# Altium schematic symbol library BWRC.SchLib: 49 symbols
Pins are listed as number, name and electrical type; pins without a type are passive.

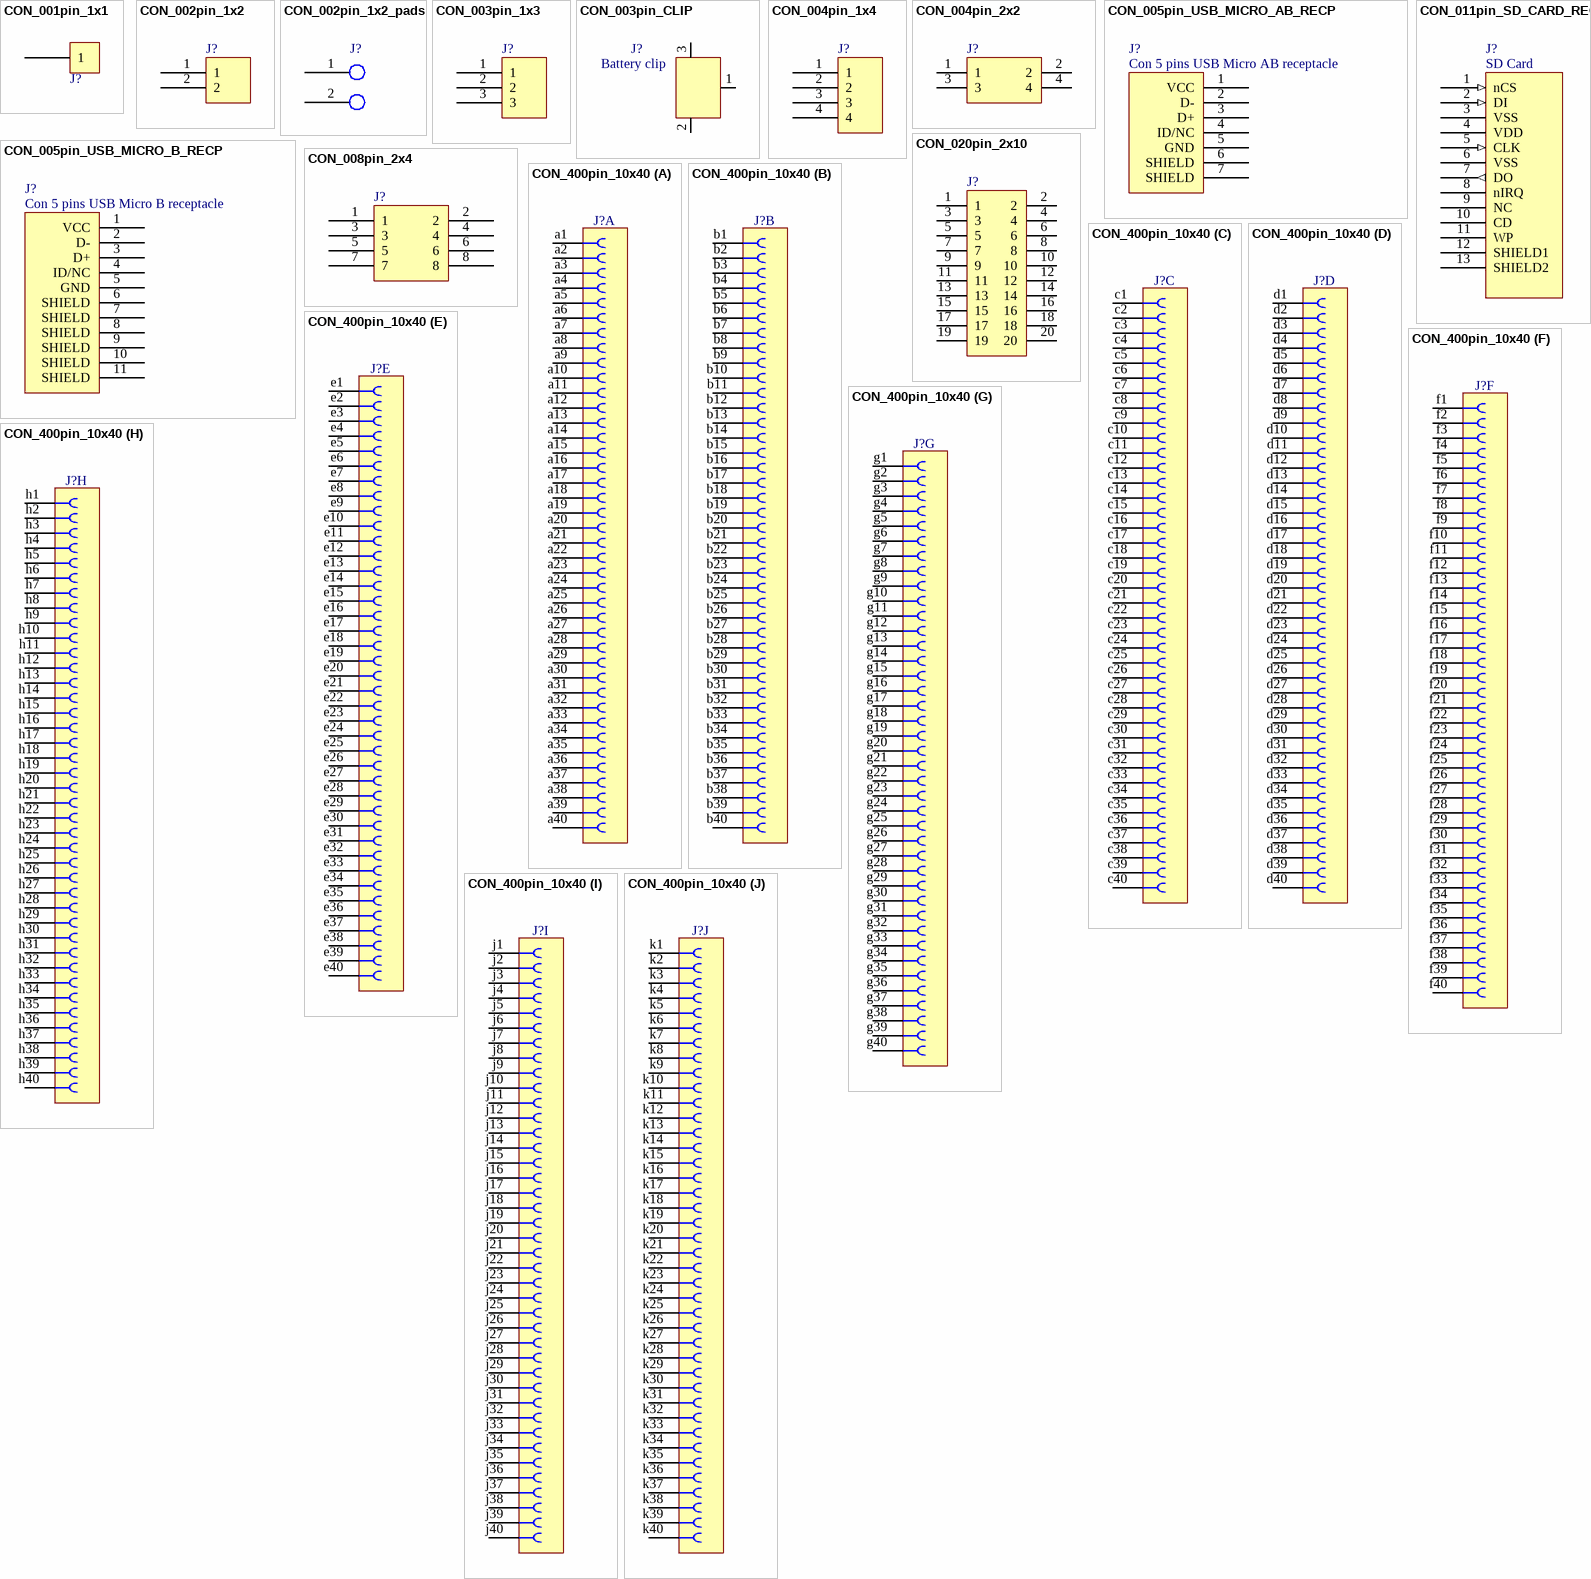
[diagram p0: symbols CON_001pin_1x1 to CON_400pin_10x40]

## CON_001pin_1x1
designator J?, comment Con 1 pin  (value not drawn)
pins: 1

## CON_002pin_1x2
designator J?, comment Con 2 pins  (value not drawn)
pins: 1, 2

## CON_002pin_1x2_pads
designator J?, comment Con 2 pads  (value not drawn)  (no BOM)
pins: 1, 2

## CON_003pin_1x3
designator J?, comment Con 3 pins  (value not drawn)
pins: 1, 2, 3

## CON_003pin_CLIP
designator J?, comment Battery clip
Con 3 pins battery clip
pins: 1, 2, 3

## CON_004pin_1x4
designator J?, comment Con 4 pins 1x4  (value not drawn)
pins: 1, 2, 3, 4

## CON_004pin_2x2
designator J?, comment Con 4 pins 2x2  (value not drawn)
pins: 1, 2, 3, 4

## CON_005pin_USB_MICRO_AB_RECP
designator J?, comment Con 5 pins USB Micro AB receptacle
Con 5 pins USB MicroAB receptacle
pins: 1 VCC, 2 D-, 3 D+, 4 ID/NC, 5 GND, 6 SHIELD, 7 SHIELD

## CON_005pin_USB_MICRO_B_RECP
designator J?, comment Con 5 pins USB Micro B receptacle
pins: 1 VCC, 2 D-, 3 D+, 4 ID/NC, 5 GND, 6 SHIELD, 7 SHIELD, 8 SHIELD, 9 SHIELD, 10 SHIELD, 11 SHIELD

## CON_008pin_2x4
designator J?, comment Con 8 pins 2x4  (value not drawn)
pins: 1, 2, 3, 4, 5, 6, 7, 8

## CON_011pin_SD_CARD_RECP
designator J?, comment SD Card
Con 11 pins secure digital card slot (normal size)
pins: 1 nCS (in), 2 DI (in), 3 VSS (power), 4 VDD (power), 5 CLK (in), 6 VSS (power), 7 DO (out), 8 nIRQ (oc), 9 NC (hiz), 10 CD, 11 WP, 12 SHIELD1, 13 SHIELD2

## CON_020pin_2x10
designator J?, comment Con 20 pins 2x10  (value not drawn)
pins: 1, 2, 3, 4, 5, 6, 7, 8, 9, 10, 11, 12, 13, 14, 15, 16, 17, 18, 19, 20

## CON_400pin_10x40
designator J?, comment Con 400 pins in 10 parts: abcdefghjk  (value not drawn)
part A pins: a1, a2, a3, a4, a5, a6, a7, a8, a9, a10, a11, a12, a13, a14, a15, a16, a17, a18, a19, a20, a21, a22, a23, a24, a25, a26, a27, a28, a29, a30, a31, a32, a33, a34, a35, a36, a37, a38, a39, a40
part B pins: b1, b2, b3, b4, b5, b6, b7, b8, b9, b10, b11, b12, b13, b14, b15, b16, b17, b18, b19, b20, b21, b22, b23, b24, b25, b26, b27, b28, b29, b30, b31, b32, b33, b34, b35, b36, b37, b38, b39, b40
part C pins: c1, c2, c3, c4, c5, c6, c7, c8, c9, c10, c11, c12, c13, c14, c15, c16, c17, c18, c19, c20, c21, c22, c23, c24, c25, c26, c27, c28, c29, c30, c31, c32, c33, c34, c35, c36, c37, c38, c39, c40
part D pins: d1, d2, d3, d4, d5, d6, d7, d8, d9, d10, d11, d12, d13, d14, d15, d16, d17, d18, d19, d20, d21, d22, d23, d24, d25, d26, d27, d28, d29, d30, d31, d32, d33, d34, d35, d36, d37, d38, d39, d40
part E pins: e1, e2, e3, e4, e5, e6, e7, e8, e9, e10, e11, e12, e13, e14, e15, e16, e17, e18, e19, e20, e21, e22, e23, e24, e25, e26, e27, e28, e29, e30, e31, e32, e33, e34, e35, e36, e37, e38, e39, e40
part F pins: f1, f2, f3, f4, f5, f6, f7, f8, f9, f10, f11, f12, f13, f14, f15, f16, f17, f18, f19, f20, f21, f22, f23, f24, f25, f26, f27, f28, f29, f30, f31, f32, f33, f34, f35, f36, f37, f38, f39, f40
part G pins: g1, g2, g3, g4, g5, g6, g7, g8, g9, g10, g11, g12, g13, g14, g15, g16, g17, g18, g19, g20, g21, g22, g23, g24, g25, g26, g27, g28, g29, g30, g31, g32, g33, g34, g35, g36, g37, g38, g39, g40
part H pins: h1, h2, h3, h4, h5, h6, h7, h8, h9, h10, h11, h12, h13, h14, h15, h16, h17, h18, h19, h20, h21, h22, h23, h24, h25, h26, h27, h28, h29, h30, h31, h32, h33, h34, h35, h36, h37, h38, h39, h40
part I pins: j1, j2, j3, j4, j5, j6, j7, j8, j9, j10, j11, j12, j13, j14, j15, j16, j17, j18, j19, j20, j21, j22, j23, j24, j25, j26, j27, j28, j29, j30, j31, j32, j33, j34, j35, j36, j37, j38, j39, j40
part J pins: k1, k2, k3, k4, k5, k6, k7, k8, k9, k10, k11, k12, k13, k14, k15, k16, k17, k18, k19, k20, k21, k22, k23, k24, k25, k26, k27, k28, k29, k30, k31, k32, k33, k34, k35, k36, k37, k38, k39, k40

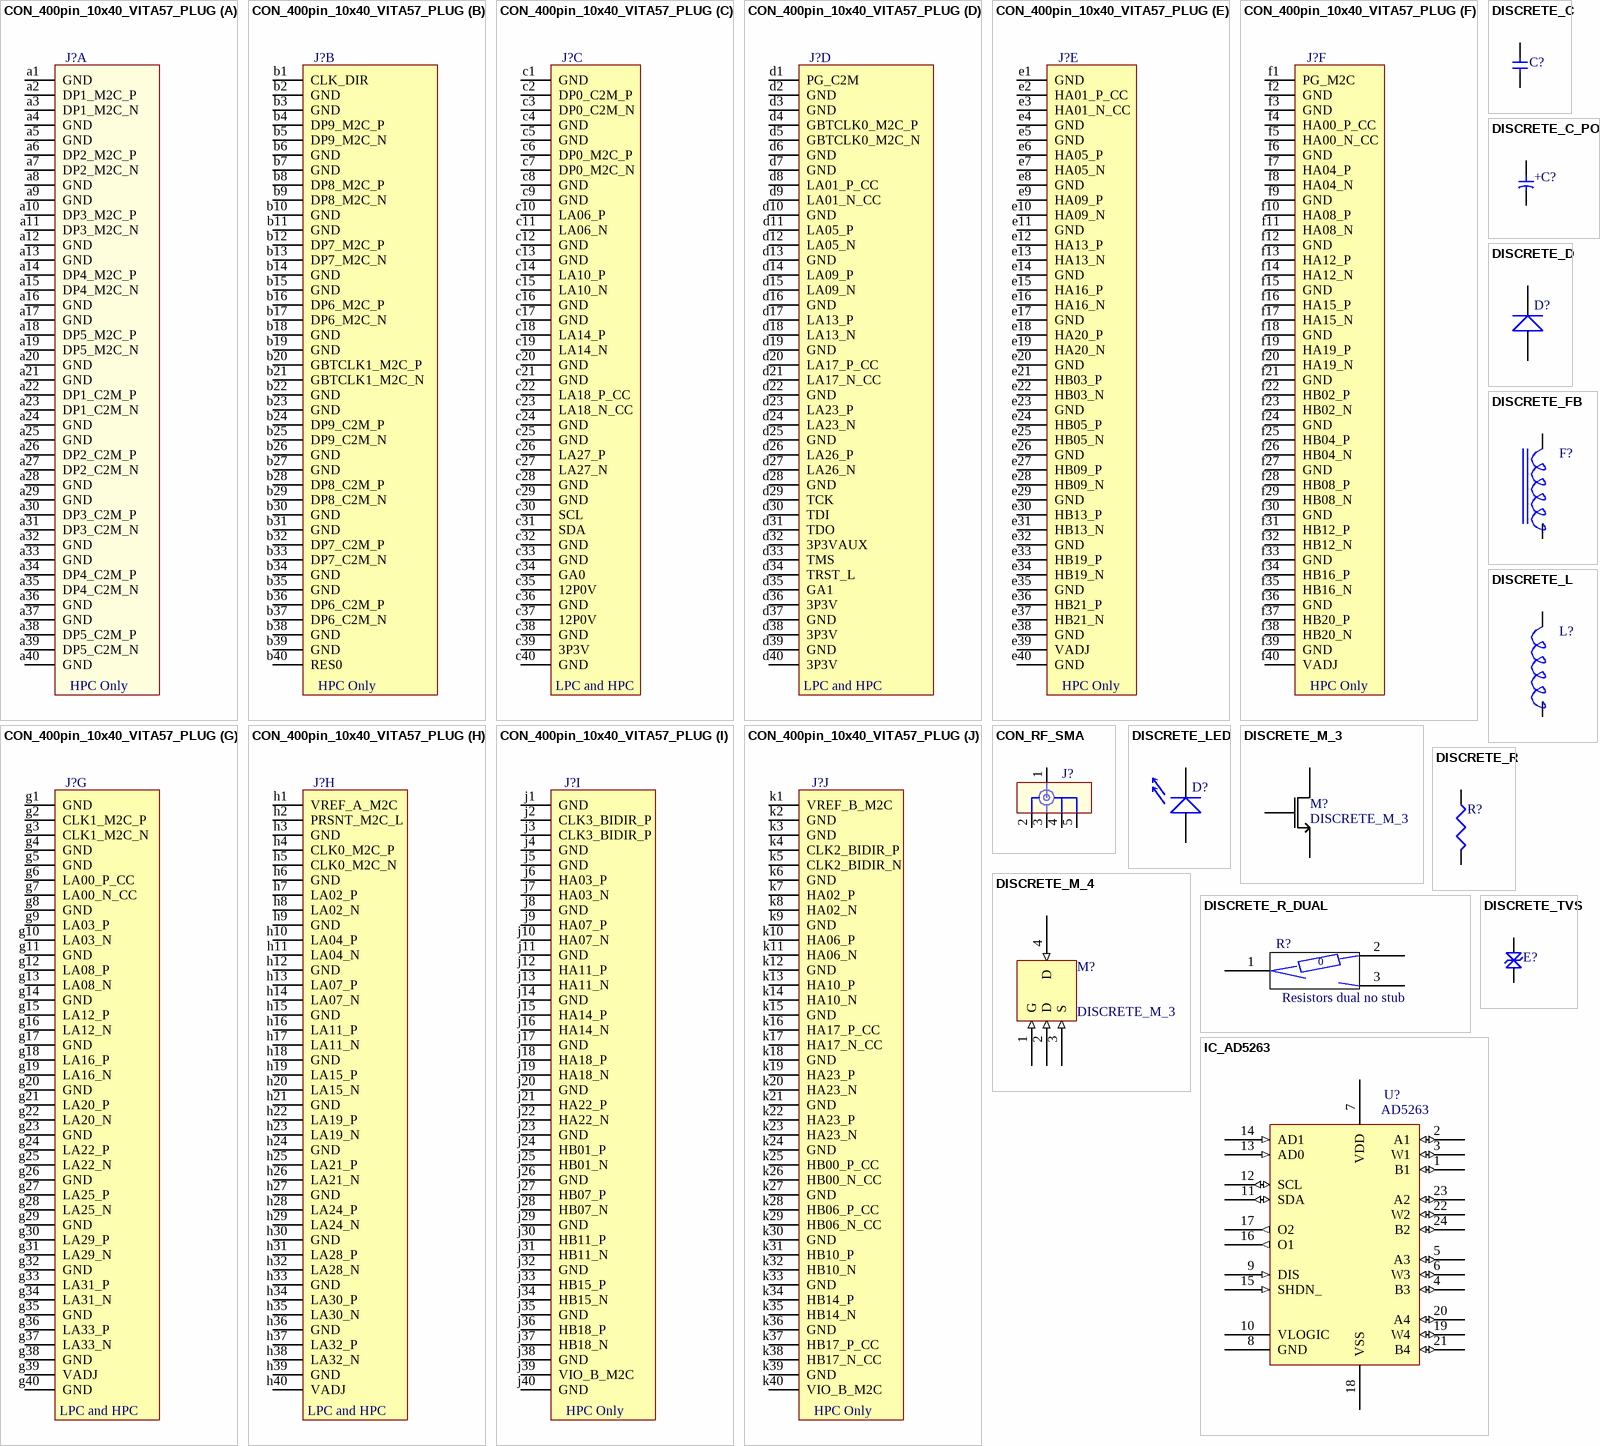
[diagram p1: symbols CON_400pin_10x40_VITA57_PLUG to IC_AD5263]

## CON_400pin_10x40_VITA57_PLUG
designator J?, comment Con 400 pins in 10 parts: abcdefghjk VITA 57  (value not drawn)
Con VITA 57, 400 male contacts in 10 parts abcdefghjk; Author: CERN DEM JLC
part A pins: a1 GND, a2 DP1_M2C_P, a3 DP1_M2C_N, a4 GND, a5 GND, a6 DP2_M2C_P, a7 DP2_M2C_N, a8 GND, a9 GND, a10 DP3_M2C_P, a11 DP3_M2C_N, a12 GND, a13 GND, a14 DP4_M2C_P, a15 DP4_M2C_N, a16 GND, a17 GND, a18 DP5_M2C_P, a19 DP5_M2C_N, a20 GND, a21 GND, a22 DP1_C2M_P, a23 DP1_C2M_N, a24 GND, a25 GND, a26 DP2_C2M_P, a27 DP2_C2M_N, a28 GND, a29 GND, a30 DP3_C2M_P, a31 DP3_C2M_N, a32 GND, a33 GND, a34 DP4_C2M_P, a35 DP4_C2M_N, a36 GND, a37 GND, a38 DP5_C2M_P, a39 DP5_C2M_N, a40 GND
part B pins: b1 CLK_DIR, b2 GND, b3 GND, b4 DP9_M2C_P, b5 DP9_M2C_N, b6 GND, b7 GND, b8 DP8_M2C_P, b9 DP8_M2C_N, b10 GND, b11 GND, b12 DP7_M2C_P, b13 DP7_M2C_N, b14 GND, b15 GND, b16 DP6_M2C_P, b17 DP6_M2C_N, b18 GND, b19 GND, b20 GBTCLK1_M2C_P, b21 GBTCLK1_M2C_N, b22 GND, b23 GND, b24 DP9_C2M_P, b25 DP9_C2M_N, b26 GND, b27 GND, b28 DP8_C2M_P, b29 DP8_C2M_N, b30 GND, b31 GND, b32 DP7_C2M_P, b33 DP7_C2M_N, b34 GND, b35 GND, b36 DP6_C2M_P, b37 DP6_C2M_N, b38 GND, b39 GND, b40 RES0
part C pins: c1 GND, c2 DP0_C2M_P, c3 DP0_C2M_N, c4 GND, c5 GND, c6 DP0_M2C_P, c7 DP0_M2C_N, c8 GND, c9 GND, c10 LA06_P, c11 LA06_N, c12 GND, c13 GND, c14 LA10_P, c15 LA10_N, c16 GND, c17 GND, c18 LA14_P, c19 LA14_N, c20 GND, c21 GND, c22 LA18_P_CC, c23 LA18_N_CC, c24 GND, c25 GND, c26 LA27_P, c27 LA27_N, c28 GND, c29 GND, c30 SCL, c31 SDA, c32 GND, c33 GND, c34 GA0, c35 12P0V, c36 GND, c37 12P0V, c38 GND, c39 3P3V, c40 GND
part D pins: d1 PG_C2M, d2 GND, d3 GND, d4 GBTCLK0_M2C_P, d5 GBTCLK0_M2C_N, d6 GND, d7 GND, d8 LA01_P_CC, d9 LA01_N_CC, d10 GND, d11 LA05_P, d12 LA05_N, d13 GND, d14 LA09_P, d15 LA09_N, d16 GND, d17 LA13_P, d18 LA13_N, d19 GND, d20 LA17_P_CC, d21 LA17_N_CC, d22 GND, d23 LA23_P, d24 LA23_N, d25 GND, d26 LA26_P, d27 LA26_N, d28 GND, d29 TCK, d30 TDI, d31 TDO, d32 3P3VAUX, d33 TMS, d34 TRST_L, d35 GA1, d36 3P3V, d37 GND, d38 3P3V, d39 GND, d40 3P3V
part E pins: e1 GND, e2 HA01_P_CC, e3 HA01_N_CC, e4 GND, e5 GND, e6 HA05_P, e7 HA05_N, e8 GND, e9 HA09_P, e10 HA09_N, e11 GND, e12 HA13_P, e13 HA13_N, e14 GND, e15 HA16_P, e16 HA16_N, e17 GND, e18 HA20_P, e19 HA20_N, e20 GND, e21 HB03_P, e22 HB03_N, e23 GND, e24 HB05_P, e25 HB05_N, e26 GND, e27 HB09_P, e28 HB09_N, e29 GND, e30 HB13_P, e31 HB13_N, e32 GND, e33 HB19_P, e34 HB19_N, e35 GND, e36 HB21_P, e37 HB21_N, e38 GND, e39 VADJ, e40 GND
part F pins: f1 PG_M2C, f2 GND, f3 GND, f4 HA00_P_CC, f5 HA00_N_CC, f6 GND, f7 HA04_P, f8 HA04_N, f9 GND, f10 HA08_P, f11 HA08_N, f12 GND, f13 HA12_P, f14 HA12_N, f15 GND, f16 HA15_P, f17 HA15_N, f18 GND, f19 HA19_P, f20 HA19_N, f21 GND, f22 HB02_P, f23 HB02_N, f24 GND, f25 HB04_P, f26 HB04_N, f27 GND, f28 HB08_P, f29 HB08_N, f30 GND, f31 HB12_P, f32 HB12_N, f33 GND, f34 HB16_P, f35 HB16_N, f36 GND, f37 HB20_P, f38 HB20_N, f39 GND, f40 VADJ
part G pins: g1 GND, g2 CLK1_M2C_P, g3 CLK1_M2C_N, g4 GND, g5 GND, g6 LA00_P_CC, g7 LA00_N_CC, g8 GND, g9 LA03_P, g10 LA03_N, g11 GND, g12 LA08_P, g13 LA08_N, g14 GND, g15 LA12_P, g16 LA12_N, g17 GND, g18 LA16_P, g19 LA16_N, g20 GND, g21 LA20_P, g22 LA20_N, g23 GND, g24 LA22_P, g25 LA22_N, g26 GND, g27 LA25_P, g28 LA25_N, g29 GND, g30 LA29_P, g31 LA29_N, g32 GND, g33 LA31_P, g34 LA31_N, g35 GND, g36 LA33_P, g37 LA33_N, g38 GND, g39 VADJ, g40 GND
part H pins: h1 VREF_A_M2C, h2 PRSNT_M2C_L, h3 GND, h4 CLK0_M2C_P, h5 CLK0_M2C_N, h6 GND, h7 LA02_P, h8 LA02_N, h9 GND, h10 LA04_P, h11 LA04_N, h12 GND, h13 LA07_P, h14 LA07_N, h15 GND, h16 LA11_P, h17 LA11_N, h18 GND, h19 LA15_P, h20 LA15_N, h21 GND, h22 LA19_P, h23 LA19_N, h24 GND, h25 LA21_P, h26 LA21_N, h27 GND, h28 LA24_P, h29 LA24_N, h30 GND, h31 LA28_P, h32 LA28_N, h33 GND, h34 LA30_P, h35 LA30_N, h36 GND, h37 LA32_P, h38 LA32_N, h39 GND, h40 VADJ
part I pins: j1 GND, j2 CLK3_BIDIR_P, j3 CLK3_BIDIR_P, j4 GND, j5 GND, j6 HA03_P, j7 HA03_N, j8 GND, j9 HA07_P, j10 HA07_N, j11 GND, j12 HA11_P, j13 HA11_N, j14 GND, j15 HA14_P, j16 HA14_N, j17 GND, j18 HA18_P, j19 HA18_N, j20 GND, j21 HA22_P, j22 HA22_N, j23 GND, j24 HB01_P, j25 HB01_N, j26 GND, j27 HB07_P, j28 HB07_N, j29 GND, j30 HB11_P, j31 HB11_N, j32 GND, j33 HB15_P, j34 HB15_N, j35 GND, j36 HB18_P, j37 HB18_N, j38 GND, j39 VIO_B_M2C, j40 GND
part J pins: k1 VREF_B_M2C, k2 GND, k3 GND, k4 CLK2_BIDIR_P, k5 CLK2_BIDIR_N, k6 GND, k7 HA02_P, k8 HA02_N, k9 GND, k10 HA06_P, k11 HA06_N, k12 GND, k13 HA10_P, k14 HA10_N, k15 GND, k16 HA17_P_CC, k17 HA17_N_CC, k18 GND, k19 HA23_P, k20 HA23_N, k21 GND, k22 HA23_P, k23 HA23_N, k24 GND, k25 HB00_P_CC, k26 HB00_N_CC, k27 GND, k28 HB06_P_CC, k29 HB06_N_CC, k30 GND, k31 HB10_P, k32 HB10_N, k33 GND, k34 HB14_P, k35 HB14_N, k36 GND, k37 HB17_P_CC, k38 HB17_N_CC, k39 GND, k40 VIO_B_M2C
part A text: HPC Only
part B text: HPC Only
part C text: LPC and HPC
part D text: LPC and HPC
part E text: HPC Only
part F text: HPC Only
part G text: LPC and HPC
part H text: LPC and HPC
part I text: HPC Only
part J text: HPC Only

## CON_RF_SMA
designator J?, comment Con RF SMA  (value not drawn)
pins: 1, 2, 3, 4, 5

## DISCRETE_C
designator C?
Capacitor generic
pins: 1, 2

## DISCRETE_C_POL
designator C?
Capacitor polarized
pins: 1, 2
text: +

## DISCRETE_D
designator D?
Diode generic
pins: 1, 2

## DISCRETE_FB
designator F?
Ferrite bead generic
pins: 1, 2

## DISCRETE_L
designator L?
Inductor generic
pins: 1, 2

## DISCRETE_LED
designator D?
LED generic
pins: 1, 2

## DISCRETE_M_3
designator M?
Transistor NMOS 3 pin
pins: 1 G, 2 S, 3 D

## DISCRETE_M_4
designator M?, comment DISCRETE_M_3
Transistor NMOS 4 pin
pins: 1 G (in), 2 D (in), 3 S (in), 4 D (in)

## DISCRETE_R
designator R?
Resistor generic
pins: 1, 2

## DISCRETE_R_DUAL
designator R?, comment Resistors dual no stub  (no BOM)
pins: 1, 2, 3
text: 0

## DISCRETE_TVS
designator E?, comment TVS ESD protection clamp  (value not drawn)
TVS ESD protection clamp generic
pins: 1, 2

## IC_AD5263
designator U?, comment AD5263
AD5263 potentiometer digital 4-output
pins: 1 B1 (io), 2 A1 (io), 3 W1 (io), 4 B3 (io), 5 A3 (io), 6 W3 (io), 7 VDD (power), 8 GND (power), 9 DIS (in), 10 VLOGIC (power), 11 SDA (io), 12 SCL (io), 13 AD0 (in), 14 AD1 (in), 15 SHDN_ (in), 16 O1 (out), 17 O2 (out), 18 VSS (power), 19 W4 (io), 20 A4 (io), 21 B4 (io), 22 W2 (io), 23 A2 (io), 24 B2 (io)

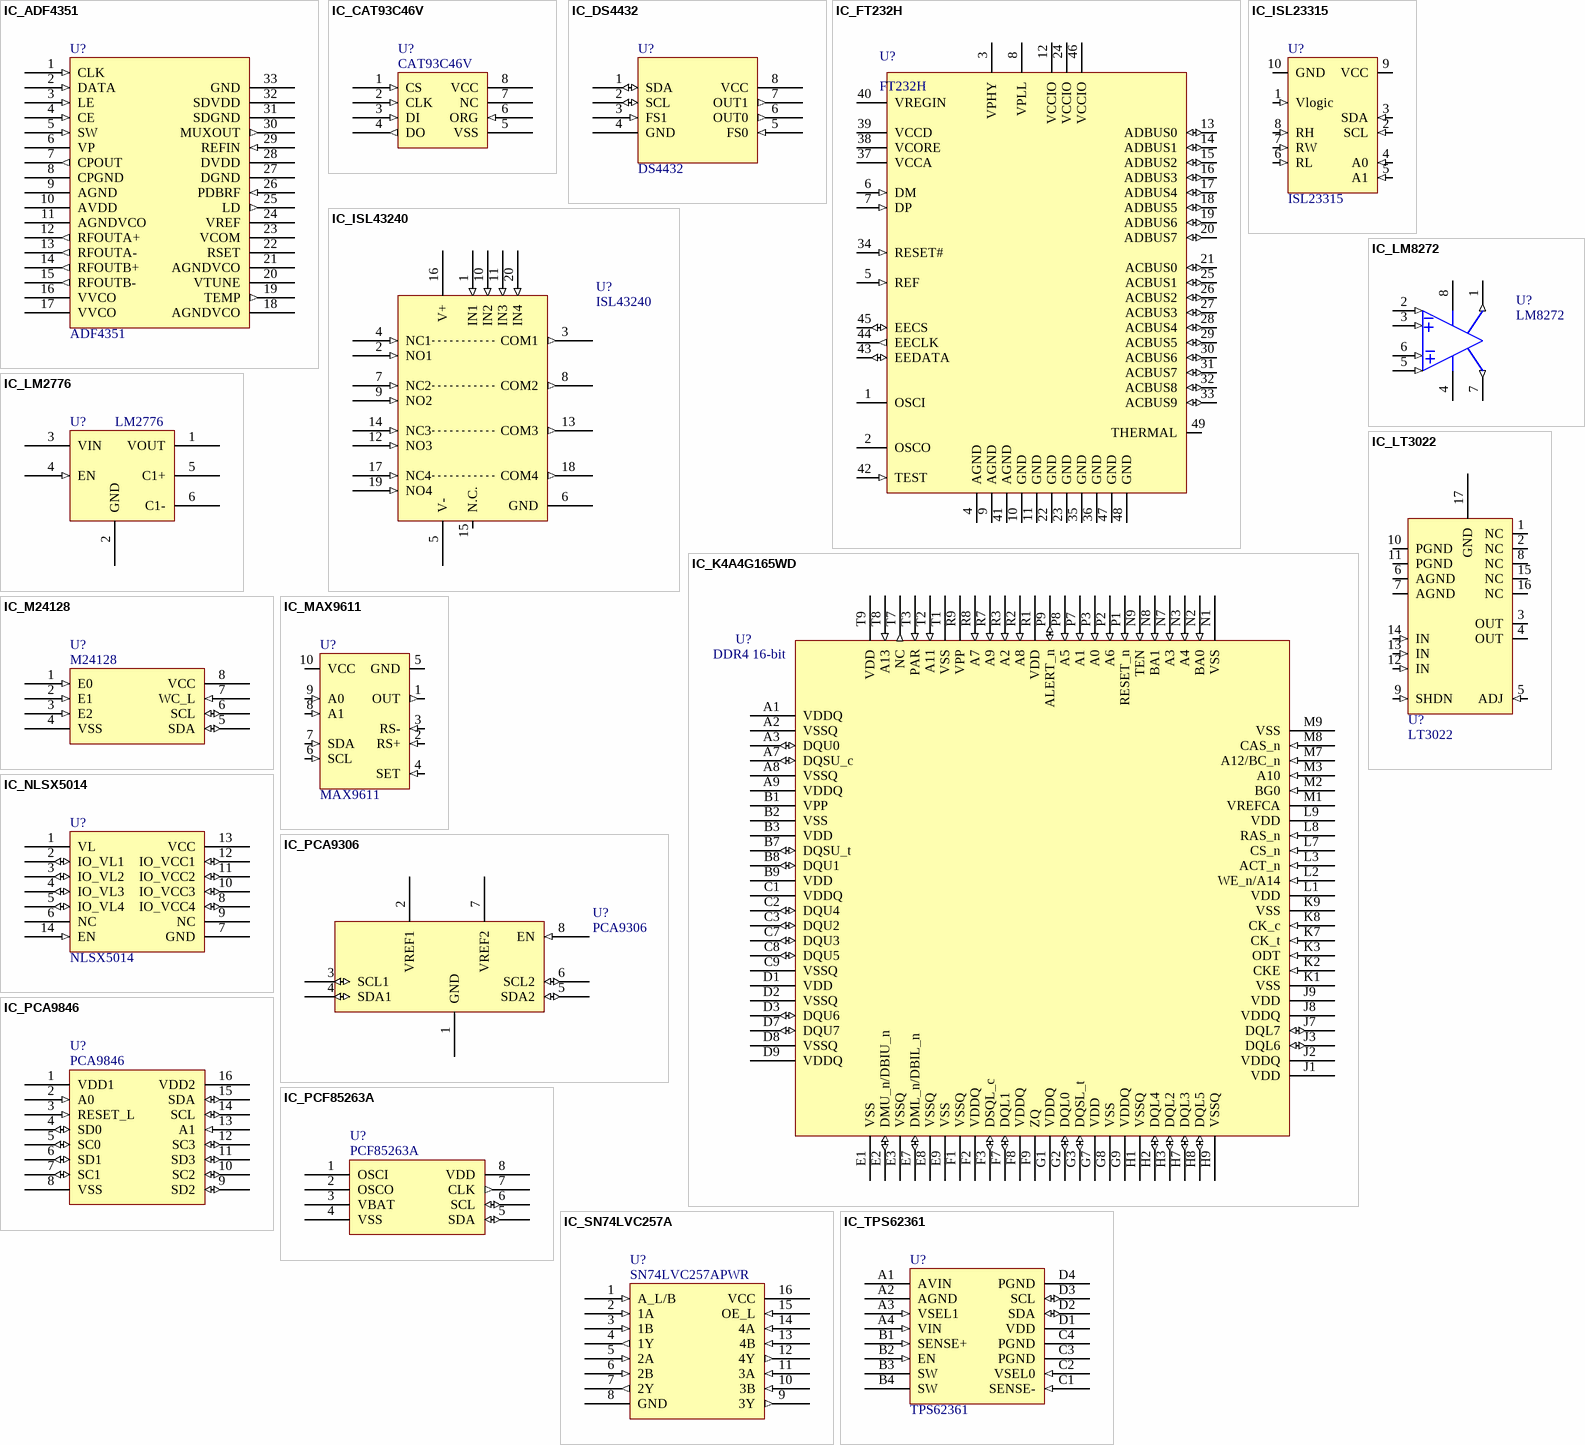
[diagram p2: symbols IC_ADF4351 to IC_TPS62361]

## IC_ADF4351
designator U?, comment ADF4351
ADF4351 synthesizer wideband
pins: 1 CLK (in), 2 DATA (in), 3 LE (in), 4 CE (in), 5 SW (in), 6 VP (power), 7 CPOUT (out), 8 CPGND (power), 9 AGND (power), 10 AVDD (power), 11 AGNDVCO (power), 12 RFOUTA+ (out), 13 RFOUTA- (out), 14 RFOUTB+ (out), 15 RFOUTB- (out), 16 VVCO (power), 17 VVCO (power), 18 AGNDVCO (power), 19 TEMP (out), 20 VTUNE, 21 AGNDVCO (power), 22 RSET, 23 VCOM, 24 VREF (hiz), 25 LD (out), 26 PDBRF (in), 27 DGND (power), 28 DVDD (power), 29 REFIN (in), 30 MUXOUT (out), 31 SDGND (power), 32 SDVDD (power), 33 GND (power)

## IC_CAT93C46V
designator U?, comment CAT93C46V
CAT93C46V EEPROM 1 Kb microwire serial
pins: 1 CS (in), 2 CLK (in), 3 DI (in), 4 DO (out), 5 VSS (power), 6 ORG (in), 7 NC, 8 VCC (power)

## IC_DS4432
designator U?, comment DS4432
DS4432 current source programmable I2C
pins: 1 SDA (io), 2 SCL (io), 3 FS1 (in), 4 GND (power), 5 FS0 (in), 6 OUT0 (out), 7 OUT1 (out), 8 VCC (power)

## IC_FT232H
designator U?, comment FT232H
FT232H USB to UART/FIFO single channel high speed multipurpose; ComponentLink1Description: Manufacturer URL; ComponentLink1URL: http://www.ftdichip.com/; ComponentLink2Description: Datasheet; ComponentLink2URL: http://www.ftdichip.com/Support/Documents/DataSheets/ICs/DS_FT232H.pdf
pins: 1 OSCI, 2 OSCO, 3 VPHY (power), 4 AGND (power), 5 REF (in), 6 DM (in), 7 DP (in), 8 VPLL (power), 9 AGND (power), 10 GND (power), 11 GND (power), 12 VCCIO (power), 13 ADBUS0 (io), 14 ADBUS1 (io), 15 ADBUS2 (io), 16 ADBUS3 (io), 17 ADBUS4 (io), 18 ADBUS5 (io), 19 ADBUS6 (io), 20 ADBUS7 (io), 21 ACBUS0 (io), 22 GND (power), 23 GND (power), 24 VCCIO (power), 25 ACBUS1 (io), 26 ACBUS2 (io), 27 ACBUS3 (io), 28 ACBUS4 (io), 29 ACBUS5 (io), 30 ACBUS6 (io), 31 ACBUS7 (io), 32 ACBUS8 (io), 33 ACBUS9 (io), 34 RESET# (in), 35 GND (power), 36 GND (power), 37 VCCA (power), 38 VCORE (power), 39 VCCD (power), 40 VREGIN (power), 41 AGND (power), 42 TEST (in), 43 EEDATA (io), 44 EECLK (out), 45 EECS (io), 46 VCCIO (power), 47 GND (power), 48 GND (power), 49 THERMAL

## IC_ISL23315
designator U?, comment ISL23315
ISL23315 potentiometer digital 10K 256 positions
pins: 1 Vlogic (in), 2 SCL (in), 3 SDA (in), 4 A0 (in), 5 A1 (in), 6 RL (in), 7 RW (in), 8 RH (in), 9 VCC (power), 10 GND (power)

## IC_ISL43240
designator U?, comment ISL43240
ISL43240 switch SPDT quad
pins: 1 IN1 (in), 2 NO1 (in), 3 COM1 (out), 4 NC1 (in), 5 V- (power), 6 GND (power), 7 NC2 (in), 8 COM2 (out), 9 NO2 (in), 10 IN2 (in), 11 IN3 (in), 12 NO3 (in), 13 COM3 (out), 14 NC3 (in), 15 N.C., 16 V+ (power), 17 NC4 (in), 18 COM4 (out), 19 NO4 (in), 20 IN4 (in)

## IC_K4A4G165WD
designator U?, comment DDR4 16-bit
pins: A1 VDDQ (power), A2 VSSQ (power), A3 DQU0 (io), A7 DQSU_c (io), A8 VSSQ (power), A9 VDDQ (power), B1 VPP (power), B2 VSS (power), B3 VDD (power), B7 DQSU_t (io), B8 DQU1 (io), B9 VDD (power), C1 VDDQ (power), C2 DQU4 (io), C3 DQU2 (io), C7 DQU3 (io), C8 DQU5 (io), C9 VSSQ (power), D1 VDD (power), D2 VSSQ (power), D3 DQU6 (io), D7 DQU7 (io), D8 VSSQ (power), D9 VDDQ (power), E1 VSS (power), E2 DMU_n/DBIU_n (io), E3 VSSQ (power), E7 DML_n/DBIL_n (io), E8 VSSQ (power), E9 VSS (power), F1 VSSQ (power), F2 VDDQ (power), F3 DSQL_c (io), F7 DQL1 (io), F8 VDDQ (power), F9 ZQ (power), G1 VDDQ (power), G2 DQL0 (io), G3 DQSL_t (io), G7 VDD (power), G8 VSS (power), G9 VDDQ (power), H1 VSSQ (power), H2 DQL4 (io), H3 DQL2 (io), H7 DQL3 (io), H8 DQL5 (io), H9 VSSQ (power), J1 VDD (power), J2 VDDQ (power), J3 DQL6 (io), J7 DQL7 (io), J8 VDDQ (power), J9 VDD (power), K1 VSS (power), K2 CKE (in), K3 ODT (in), K7 CK_t (in), K8 CK_c (in), K9 VSS (power), L1 VDD (power), L2 WE_n/A14 (in), L3 ACT_n (in), L7 CS_n (in), L8 RAS_n (in), L9 VDD (power), M1 VREFCA (power), M2 BG0 (in), M3 A10 (in), M7 A12/BC_n (in), M8 CAS_n (in), M9 VSS (power), N1 VSS (power), N2 BA0 (in), N3 A4 (in), N7 A3 (in), N8 BA1 (in), N9 TEN (in), P1 RESET_n (in), P2 A6 (in), P3 A0 (in), P7 A1 (in), P8 A5 (in), P9 ALERT_n (io), R1 VDD (power), R2 A8 (in), R3 A2 (in), R7 A9 (in), R8 A7 (in), R9 VPP (power), T1 VSS (power), T2 A11 (in), T3 PAR (in), T7 NC (out), T8 A13 (in), T9 VDD (power)

## IC_LM2776
designator U?, comment LM2776
LM2776 voltage inverter
pins: 1 VOUT (power), 2 GND (power), 3 VIN (power), 4 EN (in), 5 C1+, 6 C1-

## IC_LM8272
designator U?, comment LM8272
LM8272 op-amp RRIO high output current & unlimited cap load
pins: 1 OUTA (out), 2 INA- (in), 3 INA+ (in), 4 V- (power), 5 INB+ (in), 6 INB- (in), 7 OUTB (out), 8 V+ (power)

## IC_LT3022
designator U?, comment LT3022
LT3022 regulator LDO adjustable 1A
pins: 1 NC (power), 2 NC (power), 3 OUT (power), 4 OUT (power), 5 ADJ (in), 6 AGND (power), 7 AGND (power), 8 NC (power), 9 SHDN (in), 10 PGND (power), 11 PGND (power), 12 IN (in), 13 IN (in), 14 IN (in), 15 NC (power), 16 NC (power), 17 GND (power)

## IC_M24128
designator U?, comment M24128
M24128 EEPROM 16KiB (128Kib) I2C
pins: 1 E0 (in), 2 E1 (in), 3 E2 (in), 4 VSS (power), 5 SDA (io), 6 SCL (io), 7 WC_L (in), 8 VCC (power)

## IC_MAX9611
designator U?, comment MAX9611
MAX9611 op-amp current sense 2.5MHz
pins: 1 OUT (out), 2 RS+ (in), 3 RS- (in), 4 SET (in), 5 GND (power), 6 SCL (in), 7 SDA (in), 8 A1 (in), 9 A0 (in), 10 VCC (power)

## IC_NLSX5014
designator U?, comment NLSX5014
NLSX5014 level shifter bidirectional 4-channel
pins: 1 VL (power), 2 IO_VL1 (io), 3 IO_VL2 (io), 4 IO_VL3 (io), 5 IO_VL4 (io), 6 NC (hiz), 7 GND (power), 8 IO_VCC4 (io), 9 NC (hiz), 10 IO_VCC3 (io), 11 IO_VCC2 (io), 12 IO_VCC1 (io), 13 VCC (power), 14 EN (in)

## IC_PCA9306
designator U?, comment PCA9306
PCA9306 level shifter I2C
pins: 1 GND (power), 2 VREF1 (power), 3 SCL1 (io), 4 SDA1 (io), 5 SDA2 (io), 6 SCL2 (io), 7 VREF2 (power), 8 EN (in)

## IC_PCA9846
designator U?, comment PCA9846
PCA9846 low voltage 4:1 mux with level-shifting I2C
pins: 1 VDD1 (power), 2 A0 (in), 3 RESET_L (in), 4 SD0 (io), 5 SC0 (io), 6 SD1 (io), 7 SC1 (io), 8 VSS (power), 9 SD2 (io), 10 SC2 (io), 11 SD3 (io), 12 SC3 (io), 13 A1 (in), 14 SCL (io), 15 SDA (io), 16 VDD2 (power)

## IC_PCF85263A
designator U?, comment PCF85263A
PCF85263A real time clock w/ battery input I2C
pins: 1 OSCI, 2 OSCO, 3 VBAT (power), 4 VSS (power), 5 SDA (io), 6 SCL (io), 7 CLK (out), 8 VDD (power)

## IC_SN74LVC257A
designator U?, comment SN74LVC257APWR
SN74LVC257 4x 2:1 mux with output enable
pins: 1 A_L/B (in), 2 1A (in), 3 1B (in), 4 1Y (out), 5 2A (in), 6 2B (in), 7 2Y (out), 8 GND (power), 9 3Y (out), 10 3B (in), 11 3A (in), 12 4Y (out), 13 4B (in), 14 4A (in), 15 OE_L (in), 16 VCC (power)

## IC_TPS62361
designator U?, comment TPS62361
TPS62361 regulator switching positive adjustable
pins: A1 AVIN (power), A2 AGND (power), A3 VSEL1 (in), A4 VIN (in), B1 SENSE+ (in), B2 EN (in), B3 SW, B4 SW, C1 SENSE- (in), C2 VSEL0 (in), C3 PGND (power), C4 PGND (power), D1 VDD (power), D2 SDA (io), D3 SCL (io), D4 PGND (power)

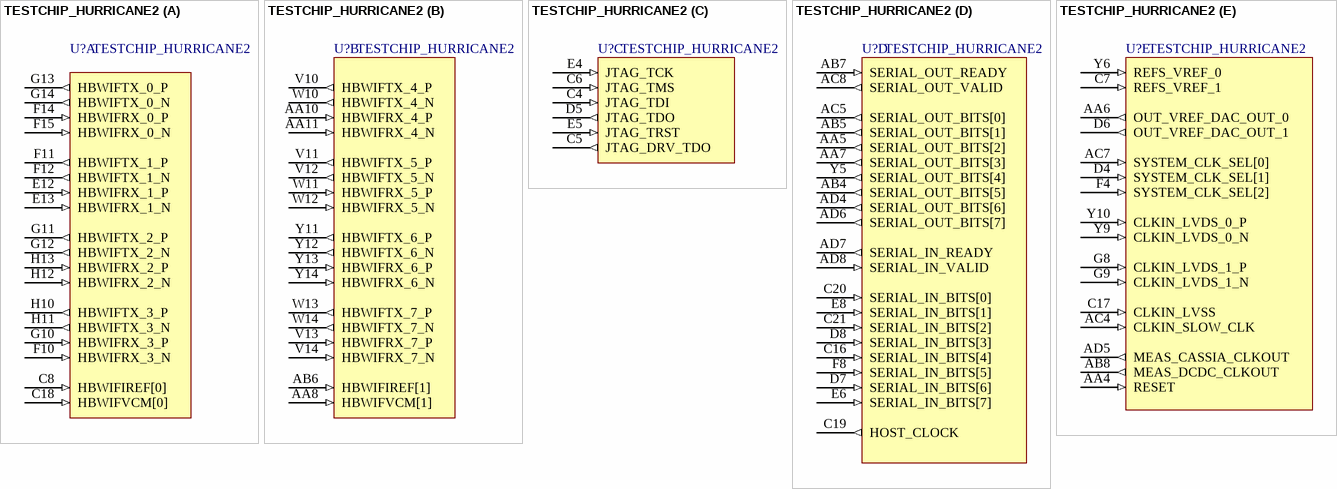
[diagram p3: symbol TESTCHIP_HURRICANE2]

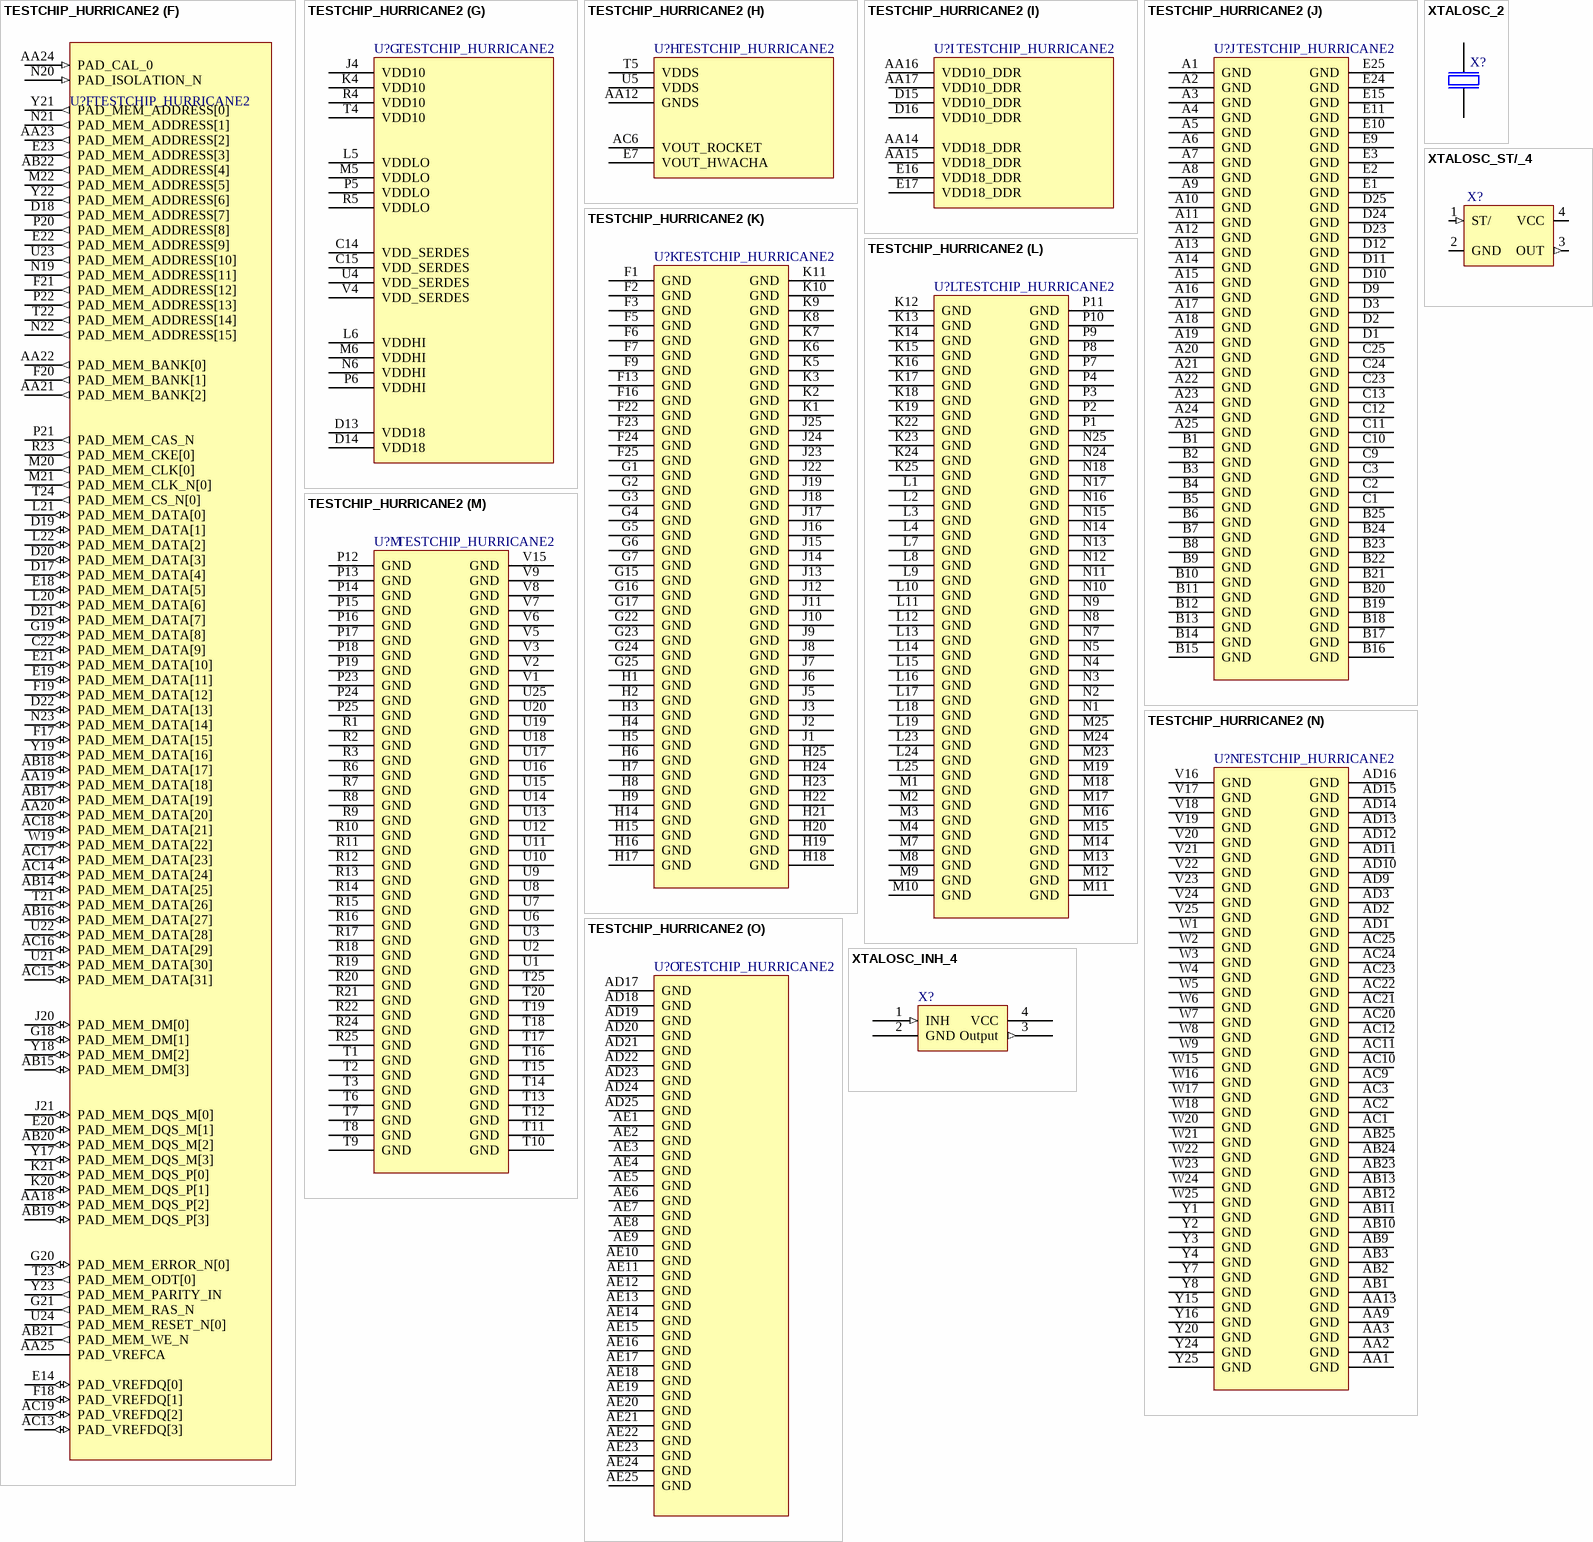
[diagram p4: symbols TESTCHIP_HURRICANE2 to XTALOSC_ST/_4]

## TESTCHIP_HURRICANE2
designator U?
part A pins: C8 HBWIFIREF[0] (in), C18 HBWIFVCM[0] (in), E12 HBWIFRX_1_P (in), E13 HBWIFRX_1_N (in), F10 HBWIFRX_3_N (in), F11 HBWIFTX_1_P (out), F12 HBWIFTX_1_N (out), F14 HBWIFRX_0_P (in), F15 HBWIFRX_0_N (in), G10 HBWIFRX_3_P (in), G11 HBWIFTX_2_P (out), G12 HBWIFTX_2_N (out), G13 HBWIFTX_0_P (out), G14 HBWIFTX_0_N (out), H10 HBWIFTX_3_P (out), H11 HBWIFTX_3_N (out), H12 HBWIFRX_2_N (in), H13 HBWIFRX_2_P (in)
part B pins: AA8 HBWIFVCM[1] (in), AA10 HBWIFRX_4_P (in), AA11 HBWIFRX_4_N (in), AB6 HBWIFIREF[1] (in), V10 HBWIFTX_4_P (out), V11 HBWIFTX_5_P (out), V12 HBWIFTX_5_N (out), V13 HBWIFRX_7_P (in), V14 HBWIFRX_7_N (in), W10 HBWIFTX_4_N (out), W11 HBWIFRX_5_P (in), W12 HBWIFRX_5_N (in), W13 HBWIFTX_7_P (out), W14 HBWIFTX_7_N (out), Y11 HBWIFTX_6_P (out), Y12 HBWIFTX_6_N (out), Y13 HBWIFRX_6_P (in), Y14 HBWIFRX_6_N (in)
part C pins: C4 JTAG_TDI (in), C5 JTAG_DRV_TDO (out), C6 JTAG_TMS (in), D5 JTAG_TDO (out), E4 JTAG_TCK (in), E5 JTAG_TRST (in)
part D pins: AA5 SERIAL_OUT_BITS[2] (out), AA7 SERIAL_OUT_BITS[3] (out), AB4 SERIAL_OUT_BITS[5] (out), AB5 SERIAL_OUT_BITS[1] (out), AB7 SERIAL_OUT_READY (in), AC5 SERIAL_OUT_BITS[0] (out), AC8 SERIAL_OUT_VALID (out), AD4 SERIAL_OUT_BITS[6] (out), AD6 SERIAL_OUT_BITS[7] (out), AD7 SERIAL_IN_READY (out), AD8 SERIAL_IN_VALID (in), C16 SERIAL_IN_BITS[4] (in), C19 HOST_CLOCK (out), C20 SERIAL_IN_BITS[0] (in), C21 SERIAL_IN_BITS[2] (in), D7 SERIAL_IN_BITS[6] (in), D8 SERIAL_IN_BITS[3] (in), E6 SERIAL_IN_BITS[7] (in), E8 SERIAL_IN_BITS[1] (in), F8 SERIAL_IN_BITS[5] (in), Y5 SERIAL_OUT_BITS[4] (out)
part E pins: AA4 RESET (in), AA6 OUT_VREF_DAC_OUT_0 (out), AB8 MEAS_DCDC_CLKOUT (out), AC4 CLKIN_SLOW_CLK (in), AC7 SYSTEM_CLK_SEL[0] (in), AD5 MEAS_CASSIA_CLKOUT (out), C7 REFS_VREF_1 (in), C17 CLKIN_LVSS (in), D4 SYSTEM_CLK_SEL[1] (in), D6 OUT_VREF_DAC_OUT_1 (out), F4 SYSTEM_CLK_SEL[2] (in), G8 CLKIN_LVDS_1_P (in), G9 CLKIN_LVDS_1_N (in), Y6 REFS_VREF_0 (in), Y9 CLKIN_LVDS_0_N (in), Y10 CLKIN_LVDS_0_P (in)
part F pins: AA18 PAD_MEM_DQS_P[2] (io), AA19 PAD_MEM_DATA[18] (io), AA20 PAD_MEM_DATA[20] (io), AA21 PAD_MEM_BANK[2] (out), AA22 PAD_MEM_BANK[0] (out), AA23 PAD_MEM_ADDRESS[2] (out), AA24 PAD_CAL_0 (in), AA25 PAD_VREFCA (power), AB14 PAD_MEM_DATA[25] (io), AB15 PAD_MEM_DM[3] (io), AB16 PAD_MEM_DATA[27] (io), AB17 PAD_MEM_DATA[19] (io), AB18 PAD_MEM_DATA[17] (io), AB19 PAD_MEM_DQS_P[3] (io), AB20 PAD_MEM_DQS_M[2] (io), AB21 PAD_MEM_WE_N (out), AB22 PAD_MEM_ADDRESS[4] (out), AC13 PAD_VREFDQ[3] (io), AC14 PAD_MEM_DATA[24] (io), AC15 PAD_MEM_DATA[31] (io), AC16 PAD_MEM_DATA[29] (io), AC17 PAD_MEM_DATA[23] (io), AC18 PAD_MEM_DATA[21] (io), AC19 PAD_VREFDQ[2] (io), C22 PAD_MEM_DATA[9] (io), D17 PAD_MEM_DATA[4] (io), D18 PAD_MEM_ADDRESS[7] (out), D19 PAD_MEM_DATA[1] (io), D20 PAD_MEM_DATA[3] (io), D21 PAD_MEM_DATA[7] (io), D22 PAD_MEM_DATA[13] (io), E14 PAD_VREFDQ[0] (io), E18 PAD_MEM_DATA[5] (io), E19 PAD_MEM_DATA[11] (io), E20 PAD_MEM_DQS_M[1] (io), E21 PAD_MEM_DATA[10] (io), E22 PAD_MEM_ADDRESS[9] (out), E23 PAD_MEM_ADDRESS[3] (out), F17 PAD_MEM_DATA[15] (io), F18 PAD_VREFDQ[1] (io), F19 PAD_MEM_DATA[12] (io), F20 PAD_MEM_BANK[1] (out), F21 PAD_MEM_ADDRESS[12] (out), G18 PAD_MEM_DM[1] (io), G19 PAD_MEM_DATA[8] (io), G20 PAD_MEM_ERROR_N[0] (io), G21 PAD_MEM_RAS_N (out), J20 PAD_MEM_DM[0] (io), J21 PAD_MEM_DQS_M[0] (io), K20 PAD_MEM_DQS_P[1] (io), K21 PAD_MEM_DQS_P[0] (io), L20 PAD_MEM_DATA[6] (io), L21 PAD_MEM_DATA[0] (io), L22 PAD_MEM_DATA[2] (io), M20 PAD_MEM_CLK[0] (out), M21 PAD_MEM_CLK_N[0] (out), M22 PAD_MEM_ADDRESS[5] (out), N19 PAD_MEM_ADDRESS[11] (out), N20 PAD_ISOLATION_N (in), N21 PAD_MEM_ADDRESS[1] (out), N22 PAD_MEM_ADDRESS[15] (out), N23 PAD_MEM_DATA[14] (io), P20 PAD_MEM_ADDRESS[8] (out), P21 PAD_MEM_CAS_N (out), P22 PAD_MEM_ADDRESS[13] (out), R23 PAD_MEM_CKE[0] (out), T21 PAD_MEM_DATA[26] (io), T22 PAD_MEM_ADDRESS[14] (out), T23 PAD_MEM_ODT[0] (out), T24 PAD_MEM_CS_N[0] (out), U21 PAD_MEM_DATA[30] (io), U22 PAD_MEM_DATA[28] (io), U23 PAD_MEM_ADDRESS[10] (out), U24 PAD_MEM_RESET_N[0] (out), W19 PAD_MEM_DATA[22] (io), Y17 PAD_MEM_DQS_M[3] (io), Y18 PAD_MEM_DM[2] (io), Y19 PAD_MEM_DATA[16] (io), Y21 PAD_MEM_ADDRESS[0] (out), Y22 PAD_MEM_ADDRESS[6] (out), Y23 PAD_MEM_PARITY_IN (out)
part G pins: C14 VDD_SERDES (power), C15 VDD_SERDES (power), D13 VDD18 (power), D14 VDD18 (power), J4 VDD10 (power), K4 VDD10 (power), L5 VDDLO (power), L6 VDDHI (power), M5 VDDLO (power), M6 VDDHI (power), N6 VDDHI (power), P5 VDDLO (power), P6 VDDHI (power), R4 VDD10 (power), R5 VDDLO (power), T4 VDD10 (power), U4 VDD_SERDES (power), V4 VDD_SERDES (power)
part H pins: AA12 GNDS, AC6 VOUT_ROCKET, E7 VOUT_HWACHA, T5 VDDS, U5 VDDS
part I pins: AA14 VDD18_DDR (power), AA15 VDD18_DDR (power), AA16 VDD10_DDR (power), AA17 VDD10_DDR (power), D15 VDD10_DDR (power), D16 VDD10_DDR (power), E16 VDD18_DDR (power), E17 VDD18_DDR (power)
part J pins: A1 GND (power), A2 GND (power), A3 GND (power), A4 GND (power), A5 GND (power), A6 GND (power), A7 GND (power), A8 GND (power), A9 GND (power), A10 GND (power), A11 GND (power), A12 GND (power), A13 GND (power), A14 GND (power), A15 GND (power), A16 GND (power), A17 GND (power), A18 GND (power), A19 GND (power), A20 GND (power), A21 GND (power), A22 GND (power), A23 GND (power), A24 GND (power), A25 GND (power), B1 GND (power), B2 GND (power), B3 GND (power), B4 GND (power), B5 GND (power), B6 GND (power), B7 GND (power), B8 GND (power), B9 GND (power), B10 GND (power), B11 GND (power), B12 GND (power), B13 GND (power), B14 GND (power), B15 GND (power), B16 GND (power), B17 GND (power), B18 GND (power), B19 GND (power), B20 GND (power), B21 GND (power), B22 GND (power), B23 GND (power), B24 GND (power), B25 GND (power), C1 GND (power), C2 GND (power), C3 GND (power), C9 GND (power), C10 GND (power), C11 GND (power), C12 GND (power), C13 GND (power), C23 GND (power), C24 GND (power), C25 GND (power), D1 GND (power), D2 GND (power), D3 GND (power), D9 GND (power), D10 GND (power), D11 GND (power), D12 GND (power), D23 GND (power), D24 GND (power), D25 GND (power), E1 GND (power), E2 GND (power), E3 GND (power), E9 GND (power), E10 GND (power), E11 GND (power), E15 GND (power), E24 GND (power), E25 GND (power)
part K pins: F1 GND (power), F2 GND (power), F3 GND (power), F5 GND (power), F6 GND (power), F7 GND (power), F9 GND (power), F13 GND (power), F16 GND (power), F22 GND (power), F23 GND (power), F24 GND (power), F25 GND (power), G1 GND (power), G2 GND (power), G3 GND (power), G4 GND (power), G5 GND (power), G6 GND (power), G7 GND (power), G15 GND (power), G16 GND (power), G17 GND (power), G22 GND (power), G23 GND (power), G24 GND (power), G25 GND (power), H1 GND (power), H2 GND (power), H3 GND (power), H4 GND (power), H5 GND (power), H6 GND (power), H7 GND (power), H8 GND (power), H9 GND (power), H14 GND (power), H15 GND (power), H16 GND (power), H17 GND (power), H18 GND (power), H19 GND (power), H20 GND (power), H21 GND (power), H22 GND (power), H23 GND (power), H24 GND (power), H25 GND (power), J1 GND (power), J2 GND (power), J3 GND (power), J5 GND (power), J6 GND (power), J7 GND (power), J8 GND (power), J9 GND (power), J10 GND (power), J11 GND (power), J12 GND (power), J13 GND (power), J14 GND (power), J15 GND (power), J16 GND (power), J17 GND (power), J18 GND (power), J19 GND (power), J22 GND (power), J23 GND (power), J24 GND (power), J25 GND (power), K1 GND (power), K2 GND (power), K3 GND (power), K5 GND (power), K6 GND (power), K7 GND (power), K8 GND (power), K9 GND (power), K10 GND (power), K11 GND (power)
part L pins: K12 GND (power), K13 GND (power), K14 GND (power), K15 GND (power), K16 GND (power), K17 GND (power), K18 GND (power), K19 GND (power), K22 GND (power), K23 GND (power), K24 GND (power), K25 GND (power), L1 GND (power), L2 GND (power), L3 GND (power), L4 GND (power), L7 GND (power), L8 GND (power), L9 GND (power), L10 GND (power), L11 GND (power), L12 GND (power), L13 GND (power), L14 GND (power), L15 GND (power), L16 GND (power), L17 GND (power), L18 GND (power), L19 GND (power), L23 GND (power), L24 GND (power), L25 GND (power), M1 GND (power), M2 GND (power), M3 GND (power), M4 GND (power), M7 GND (power), M8 GND (power), M9 GND (power), M10 GND (power), M11 GND (power), M12 GND (power), M13 GND (power), M14 GND (power), M15 GND (power), M16 GND (power), M17 GND (power), M18 GND (power), M19 GND (power), M23 GND (power), M24 GND (power), M25 GND (power), N1 GND (power), N2 GND (power), N3 GND (power), N4 GND (power), N5 GND (power), N7 GND (power), N8 GND (power), N9 GND (power), N10 GND (power), N11 GND (power), N12 GND (power), N13 GND (power), N14 GND (power), N15 GND (power), N16 GND (power), N17 GND (power), N18 GND (power), N24 GND (power), N25 GND (power), P1 GND (power), P2 GND (power), P3 GND (power), P4 GND (power), P7 GND (power), P8 GND (power), P9 GND (power), P10 GND (power), P11 GND (power)
part M pins: P12 GND (power), P13 GND (power), P14 GND (power), P15 GND (power), P16 GND (power), P17 GND (power), P18 GND (power), P19 GND (power), P23 GND (power), P24 GND (power), P25 GND (power), R1 GND (power), R2 GND (power), R3 GND (power), R6 GND (power), R7 GND (power), R8 GND (power), R9 GND (power), R10 GND (power), R11 GND (power), R12 GND (power), R13 GND (power), R14 GND (power), R15 GND (power), R16 GND (power), R17 GND (power), R18 GND (power), R19 GND (power), R20 GND (power), R21 GND (power), R22 GND (power), R24 GND (power), R25 GND (power), T1 GND (power), T2 GND (power), T3 GND (power), T6 GND (power), T7 GND (power), T8 GND (power), T9 GND (power), T10 GND (power), T11 GND (power), T12 GND (power), T13 GND (power), T14 GND (power), T15 GND (power), T16 GND (power), T17 GND (power), T18 GND (power), T19 GND (power), T20 GND (power), T25 GND (power), U1 GND (power), U2 GND (power), U3 GND (power), U6 GND (power), U7 GND (power), U8 GND (power), U9 GND (power), U10 GND (power), U11 GND (power), U12 GND (power), U13 GND (power), U14 GND (power), U15 GND (power), U16 GND (power), U17 GND (power), U18 GND (power), U19 GND (power), U20 GND (power), U25 GND (power), V1 GND (power), V2 GND (power), V3 GND (power), V5 GND (power), V6 GND (power), V7 GND (power), V8 GND (power), V9 GND (power), V15 GND (power)
part N pins: AA1 GND (power), AA2 GND (power), AA3 GND (power), AA9 GND (power), AA13 GND (power), AB1 GND (power), AB2 GND (power), AB3 GND (power), AB9 GND (power), AB10 GND (power), AB11 GND (power), AB12 GND (power), AB13 GND (power), AB23 GND (power), AB24 GND (power), AB25 GND (power), AC1 GND (power), AC2 GND (power), AC3 GND (power), AC9 GND (power), AC10 GND (power), AC11 GND (power), AC12 GND (power), AC20 GND (power), AC21 GND (power), AC22 GND (power), AC23 GND (power), AC24 GND (power), AC25 GND (power), AD1 GND (power), AD2 GND (power), AD3 GND (power), AD9 GND (power), AD10 GND (power), AD11 GND (power), AD12 GND (power), AD13 GND (power), AD14 GND (power), AD15 GND (power), AD16 GND (power), V16 GND (power), V17 GND (power), V18 GND (power), V19 GND (power), V20 GND (power), V21 GND (power), V22 GND (power), V23 GND (power), V24 GND (power), V25 GND (power), W1 GND (power), W2 GND (power), W3 GND (power), W4 GND (power), W5 GND (power), W6 GND (power), W7 GND (power), W8 GND (power), W9 GND (power), W15 GND (power), W16 GND (power), W17 GND (power), W18 GND (power), W20 GND (power), W21 GND (power), W22 GND (power), W23 GND (power), W24 GND (power), W25 GND (power), Y1 GND (power), Y2 GND (power), Y3 GND (power), Y4 GND (power), Y7 GND (power), Y8 GND (power), Y15 GND (power), Y16 GND (power), Y20 GND (power), Y24 GND (power), Y25 GND (power)
part O pins: AD17 GND (power), AD18 GND (power), AD19 GND (power), AD20 GND (power), AD21 GND (power), AD22 GND (power), AD23 GND (power), AD24 GND (power), AD25 GND (power), AE1 GND (power), AE2 GND (power), AE3 GND (power), AE4 GND (power), AE5 GND (power), AE6 GND (power), AE7 GND (power), AE8 GND (power), AE9 GND (power), AE10 GND (power), AE11 GND (power), AE12 GND (power), AE13 GND (power), AE14 GND (power), AE15 GND (power), AE16 GND (power), AE17 GND (power), AE18 GND (power), AE19 GND (power), AE20 GND (power), AE21 GND (power), AE22 GND (power), AE23 GND (power), AE24 GND (power), AE25 GND (power)

## XTALOSC_2
designator X?
Crystal 2 pins
pins: 1, 2

## XTALOSC_INH_4
designator X?
Oscillator w/inhibit 4 pins
pins: 1 INH (in), 2 GND (power), 3 Output (out), 4 VCC (power)

## XTALOSC_ST/_4
designator X?
Oscillator w/standby 4 pins
pins: 1 ST/ (in), 2 GND (power), 3 OUT (out), 4 VCC (power)